# EAGLE library part KMZ60 (library MAÑE)
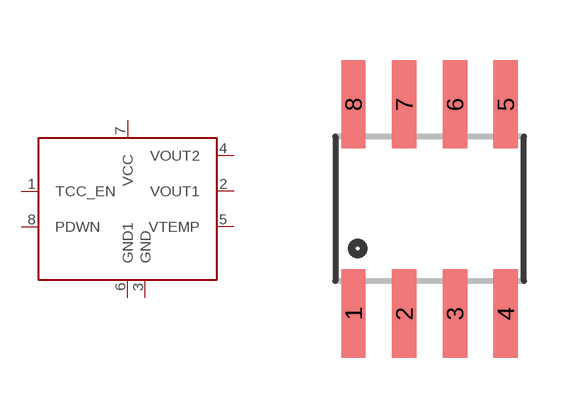
[diagram p9: symbol with the pads of SO08; footprint SO08]

Designator prefix -

## KMZ60  [SO08]
1  TCC_EN
2  VOUT1
3  GND
4  VOUT2
5  VTEMP
6  GND1
7  VCC
8  PDWN

## Footprint SO08 (pad centres in mm)
smd 0.61 x 2.21: 1 -1.905,-2.616; 2 -0.635,-2.616; 3 0.635,-2.616; 4 1.905,-2.616; 5 1.905,2.616; 6 0.635,2.616; 7 -0.635,2.616; 8 -1.905,2.616